# EAGLE library part TLC080DGN (library op-amp)
BiMOS OP-AMP - PowerPAD Package Single Supply, External Shutdown
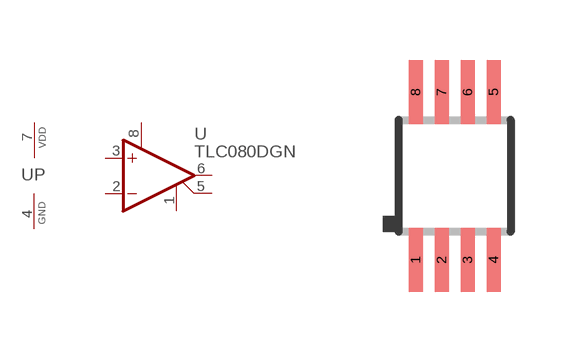
[diagram p6: symbol with the pads of MSOP08-PP; footprint MSOP08-PP]

Designator prefix U; gates A=OPAMP_PV P=PWR_VDDGND NULL=_OFFNULL2 -SHDN=_SHDN

## TLC080DGN  [MSOP08-PP]
1  NULL:NULL1  pas
2  A:-IN  in
3  A:+IN  in
4  P:GND  pwr
5  NULL:NULL2  pas
6  A:OUT  out
7  P:VDD  pwr
8  -SHDN:SHDN  pas

## Footprint MSOP08-PP (pad centres in mm)
MSOP 8 - PowerPAD pitch 0.65 mm, DGN package Texas Instruments
smd 0.35 x 1.6: 1 -0.975,-2.1; 2 -0.325,-2.1; 3 0.325,-2.1; 4 0.975,-2.1; 5 0.975,2.1; 6 0.325,2.1; 7 -0.325,2.1; 8 -0.975,2.1